# Altium schematic symbol library U_DS2438.SchLib: 1 symbol
Pins are listed as number, name and electrical type; pins without a type are passive.

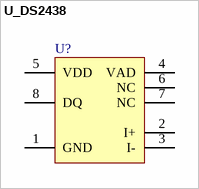
[diagram p0: symbol U_DS2438]

## U_DS2438
designator U?
pins: 1 GND, 2 I+, 3 I-, 4 VAD (power), 5 VDD, 6 NC, 7 NC, 8 DQ